# Altium schematic symbol library S1GTR - diode.SchLib: 1 symbol
Pins are listed as number, name and electrical type; pins without a type are passive.

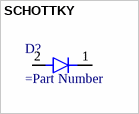
[diagram p0: symbol SCHOTTKY]

## SCHOTTKY
designator D?
=Description
pins: 1, 2